# Altium footprint library CRE2512-FZ-R001E-3.PcbLib: 1 footprints
Each footprint in its own frame and in the unit in brackets; x right, y up, seen from the top. Pads: shape width x height; smd on the part's side, far side on the other; paste and mask are expansions set on the pad; w line width, h text height; cw(c..) or ccw(c..) is an arc to the next point about the centre after c.
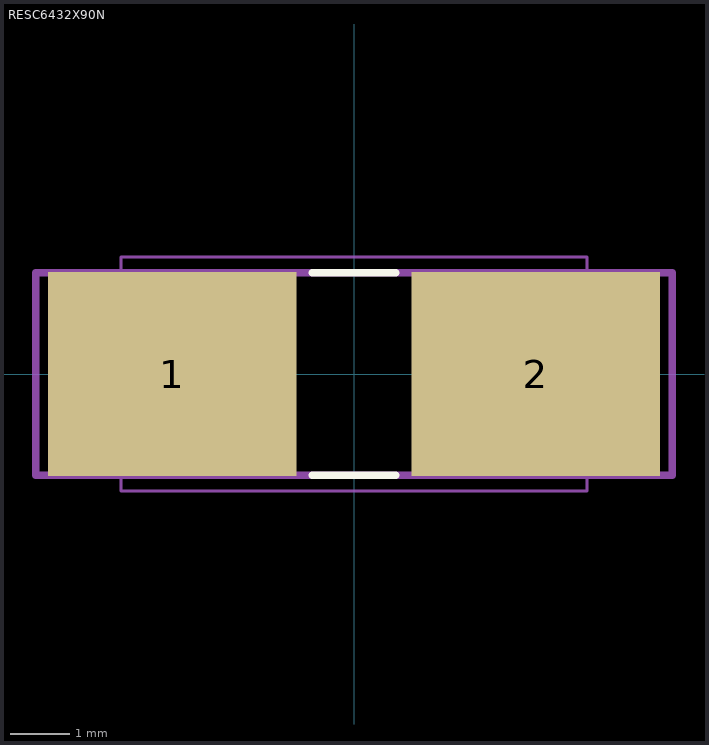
[diagram p0: the footprint, top view; thin cyan lines are the x and y axes]

## RESC6432X90N [mil]
pads (2):
  rect 163.94x134.65 smd: 1(-120,0) 2(120,0)
Top Overlay:
  lines w5: -27.56,-66.93 27.56,-66.93 ; -27.56,66.93 27.56,66.93
Mechanical 13:
  lines w5: -210,-66.93 -210,66.93 210,66.93 210,-66.93 -210,-66.93
  text "'.Designator'" at 13.94,88.12 h27.56
Mechanical 15:
  lines w1.97: -153.86,-77.09 -153.86,77.09 153.86,77.09 153.86,-77.09 -153.86,-77.09
3D body "step_temp.STEP": height 35.43, standoff 0, extent -125.98,-62.99 125.98,62.99